# EAGLE library part IC-MCP23017 (library RelayBoard)
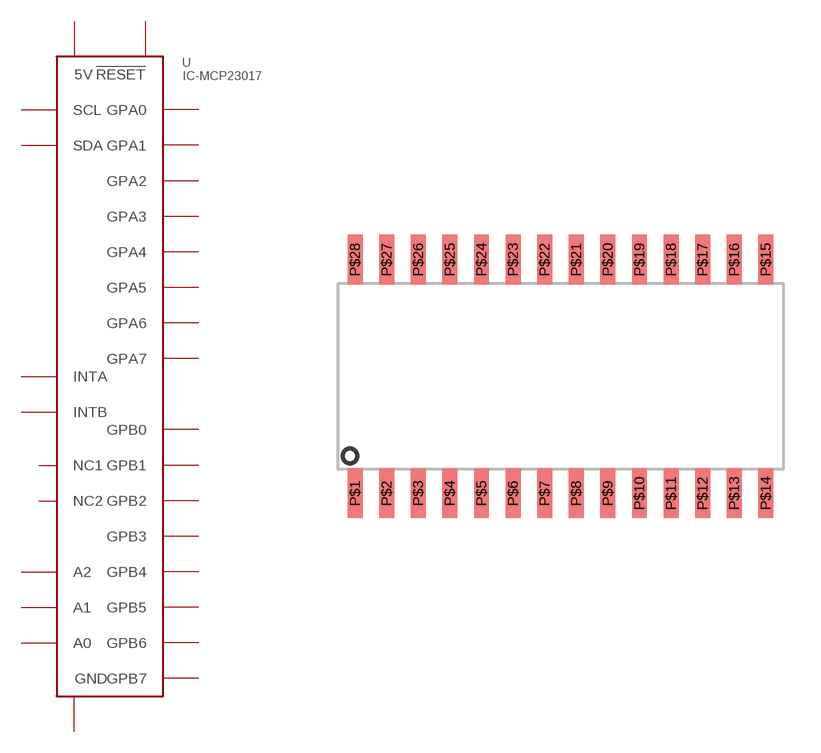
[diagram p8: symbol with the pads of SOIC-28-MCP-28-SO; footprint SOIC-28-MCP-28-SO]

Designator prefix -

## IC-MCP23017  [SOIC-28-MCP-28-SO]
P$1  GPB0
P$2  GPB1
P$3  GPB2
P$4  GPB3
P$5  GPB4
P$6  GPB5
P$7  GPB6
P$8  GPB7
P$9  5V  pwr
P$10  GND  pwr
P$11  NC1  nc
P$12  SCL  in
P$13  SDA
P$14  NC2  nc
P$15  A0  in
P$16  A1  in
P$17  A2  in
P$18  !RESET  in
P$19  INTB  out
P$20  INTA  out
P$21  GPA0
P$22  GPA1
P$23  GPA2
P$24  GPA3
P$25  GPA4
P$26  GPA5
P$27  GPA6
P$28  GPA7

## Footprint SOIC-28-MCP-28-SO (pad centres in mm)
https://www.microchip.com/stellent/groups/techpub_sg/documents/packagingspec/en012702.pdf
smd 0.6 x 2: P$1 0,-9.4; P$2 1.27,-9.4; P$3 2.54,-9.4; P$4 3.81,-9.4; P$5 5.08,-9.4; P$6 6.35,-9.4; P$7 7.62,-9.4; P$8 8.89,-9.4; P$9 10.16,-9.4; P$10 11.43,-9.4; P$11 12.7,-9.4; P$12 13.97,-9.4; P$13 15.24,-9.4; P$14 16.51,-9.4; P$15 16.51,0; P$16 15.24,0; P$17 13.97,0; P$18 12.7,0; P$19 11.43,0; P$20 10.16,0; P$21 8.89,0; P$22 7.62,0; P$23 6.35,0; P$24 5.08,0; P$25 3.81,0; P$26 2.54,0; P$27 1.27,0; P$28 0,0